# Altium schematic symbol library BQ25185.SchLib: 1 symbol
Pins are listed as number, name and electrical type; pins without a type are passive.

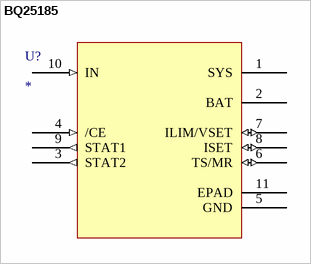
[diagram p0: symbol BQ25185]

## BQ25185
designator U?
Value: *
pins: 1 SYS (power), 2 BAT (power), 3 STAT2 (out), 4 /CE (in), 5 GND (power), 6 TS/MR (io), 7 ILIM/VSET (io), 8 ISET (io), 9 STAT1 (out), 10 IN (in), 11 EPAD